# Altium schematic symbol library dual-diode_ca.SchLib: 1 symbol
Pins are listed as number, name and electrical type; pins without a type are passive.

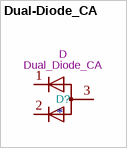
[diagram p0: symbol Dual-Diode_CA]

## Dual-Diode_CA
designator D?  value Dual_Diode_CA  Reference: D
ki_keywords: Dual Diode Common Anode; ki_description: Dual Diode Common Anode
footprint SOT-23 (SOT23, 3-Leads, IPC Medium Density, TO-236)
pins: 1 C, 2 C, 3 A